# Altium integrated library TI Amplifiers and Linear Operational Amplifier High Speed.IntLib: 1100 symbols (part 15 of 44)
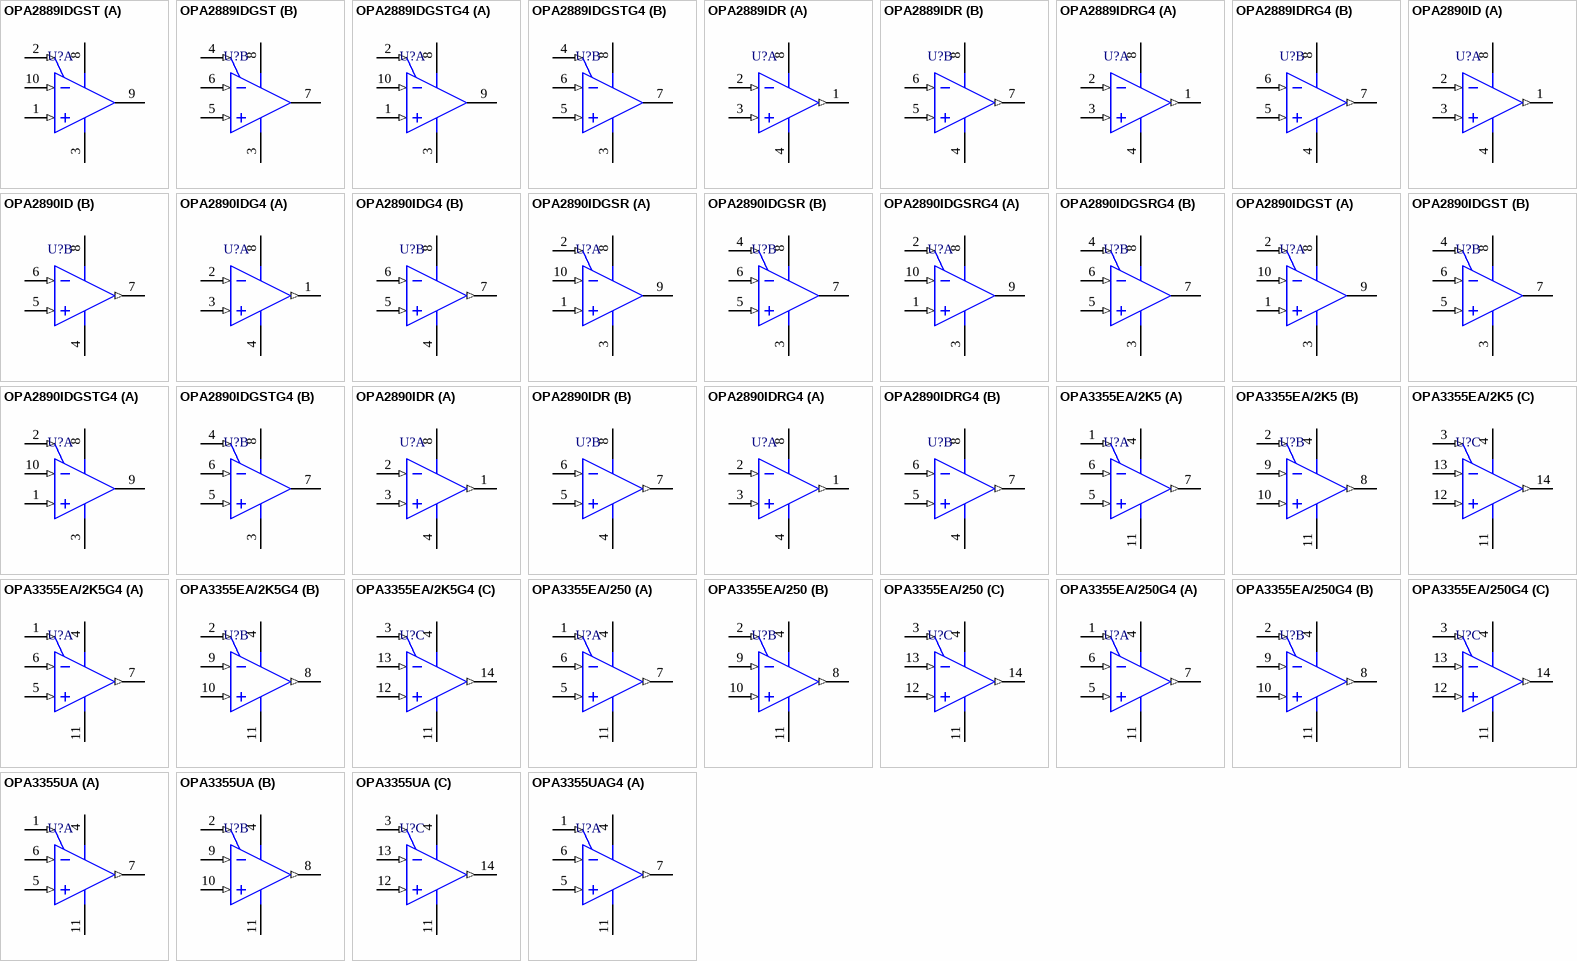
[diagram p65: symbols OPA2889IDGST to OPA3355UAG4]

## OPA2889IDGSTG4
designator U?
Dual, Low Power, Wideband, Voltage Feedback Operational Amplifier with Disable, 2.6 to 12 V, -40 to 85 degC, 10-pin SOP (DGS10), Green (RoHS & no Sb/Br); Manufacturer: Texas Instruments; PartNumber: OPA2889IDGSTG4; 2nd Harmonic(dBc): 75; 3rd Harmonic(dBc): 80; @ MHz: 1; BW @ Acl(MHz): 115; Diff Gain(%): 0.06; Diff Phase(deg): 0.04; Iib(Max)(nA): 750; Io(Typ)(mA): 40; Iq per channel(Max)(mA): 0.46; Number of Channels: 2; Settling Time (0.1%)(Typ)(ns): 25; Slew Rate(Typ)(V/us): 250; Sub Family: High Speed Amplifier (>=50MHz), Low Supply Voltage Amplifier (<=2.7V); THD (Fc is 1 MHz)(Typ)(dB): -74; Vio(Max)(mV): 5; Vn at Flatband(Typ)(nV/rtHz): 8.4; Vs(Max)(V): 12; Vs(Min)(V): 2.6; DatasheetVersion: SBOS373B; PackageVersion: 4073272/C, 02/2004; PackageReference: DGS10; PackageDescription: 10-Pin Plastic Small Outline, Body 3 x 3 mm, Pitch 0.5 mm; Supplier 1: Digi-Key; Supplier Part Number 1: OPA2889IDGSTG4-ND; Supplier 2: Mouser; Supplier Part Number 2: 595-OPA2889IDGSTG4; Acl, min stable gain(V/V): 1; Eco-Plan: Green (RoHS & no Sb/Br); Mounting Technology: Surface Mount; Code_JEDEC: MO-153; ComponentLink1Description: Manufacturer URL; ComponentLink1URL: http://www.ti.com/; ComponentLink2Description: Datasheet; ComponentLink2URL: http://www.ti.com/general/docs/lit/getliterature.tsp?genericPartNumber=OPA2889&fileType=pdf; ComponentLink3Description: Package Specification; ComponentLink3URL: http://www.ti.com/lit/ml/mpds035b/mpds035b.pdf
footprint TI-DGS10_N (SOP, 10-Leads, Body 3x3mm, Pitch 0.5mm, IPC Medium Density)
footprint TI-DGS10_L (SOP, 10-Leads, Body 3x3mm, Pitch 0.5mm, IPC High Density)
footprint TI-DGS10_M (SOP, 10-Leads, Body 3x3mm, Pitch 0.5mm, IPC Low Density)
pins on every part: 3 VS- (power), 8 VS+ (power)
part A pins: 1 IN A+ (in), 2 ~{DIS A} (in), 9 OUT A (hiz), 10 IN A- (in)
part B pins: 4 ~{DIS B} (in), 5 IN B+ (in), 6 IN B- (in), 7 OUT B (hiz)

## OPA2889IDR
designator U?
Dual, Low Power, Wideband, Voltage Feedback Operational Amplifier with Disable, 2.6 to 12 V, -40 to 85 degC, 8-pin SOIC (D8), Green (RoHS & no Sb/Br); Manufacturer: Texas Instruments; PartNumber: OPA2889IDR; 2nd Harmonic(dBc): 75; 3rd Harmonic(dBc): 80; @ MHz: 1; BW @ Acl(MHz): 115; Diff Gain(%): 0.06; Diff Phase(deg): 0.04; Iib(Max)(nA): 750; Io(Typ)(mA): 40; Iq per channel(Max)(mA): 0.46; Number of Channels: 2; Settling Time (0.1%)(Typ)(ns): 25; Slew Rate(Typ)(V/us): 250; Sub Family: High Speed Amplifier (>=50MHz), Low Supply Voltage Amplifier (<=2.7V); THD (Fc is 1 MHz)(Typ)(dB): -74; Vio(Max)(mV): 5; Vn at Flatband(Typ)(nV/rtHz): 8.4; Vs(Max)(V): 12; Vs(Min)(V): 2.6; DatasheetVersion: SBOS373B; PackageVersion: 4040047-3/M, 06/2011; PackageReference: D8; PackageDescription: 8-Pin Plastic Small Outline, Body 4.9 x 3.9 mm, Pitch 1.27 mm; Supplier 1: Digi-Key; Supplier Part Number 1: OPA2889IDR-ND; Supplier 2: Newark; Supplier Part Number 2: 50M8879; Supplier 3: Mouser; Supplier Part Number 3: 595-OPA2889IDR; Acl, min stable gain(V/V): 1; Eco-Plan: Green (RoHS & no Sb/Br); Mounting Technology: Surface Mount; Code_JEDEC: MS-012; ComponentLink1Description: Manufacturer URL; ComponentLink1URL: http://www.ti.com/; ComponentLink2Description: Datasheet; ComponentLink2URL: http://www.ti.com/general/docs/lit/getliterature.tsp?genericPartNumber=OPA2889&fileType=pdf; ComponentLink3Description: Package Specification; ComponentLink3URL: http://www.ti.com/litv/pdf/msoi002j
footprint TI-D8_N (SOIC, 8-Leads, Body 4.9x3.9mm, Pitch 1.27mm, IPC Medium Density)
footprint TI-D8_L (SOIC, 8-Leads, Body 4.9x3.9mm, Pitch 1.27mm, IPC High Density)
footprint TI-D8_M (SOIC, 8-Leads, Body 4.9x3.9mm, Pitch 1.27mm, IPC Low Density)
pins on every part: 4 VS- (power), 8 VS+ (power)
part A pins: 1 OUT A (out), 2 IN A- (in), 3 IN A+ (in)
part B pins: 5 IN B+ (in), 6 IN B- (in), 7 OUT B (out)

## OPA2889IDRG4
designator U?
Dual, Low Power, Wideband, Voltage Feedback Operational Amplifier with Disable, 2.6 to 12 V, -40 to 85 degC, 8-pin SOIC (D8), Green (RoHS & no Sb/Br); Manufacturer: Texas Instruments; PartNumber: OPA2889IDRG4; 2nd Harmonic(dBc): 75; 3rd Harmonic(dBc): 80; @ MHz: 1; BW @ Acl(MHz): 115; Diff Gain(%): 0.06; Diff Phase(deg): 0.04; Iib(Max)(nA): 880; Io(Typ)(mA): 40; Iq per channel(Max)(mA): 0.46; Number of Channels: 2; Settling Time (0.1%)(Typ)(ns): 25; Slew Rate(Typ)(V/us): 250; Sub Family: High Speed Amplifier (>=50MHz), Low Supply Voltage Amplifier (<=2.7V); THD (Fc is 1 MHz)(Typ)(dB): -74; Vio(Max)(mV): 5; Vn at Flatband(Typ)(nV/rtHz): 8.4; Vs(Max)(V): 12; Vs(Min)(V): 2.6; DatasheetVersion: SBOS373B; PackageVersion: 4040047-3/M, 06/2011; PackageReference: D8; PackageDescription: 8-Pin Plastic Small Outline, Body 4.9 x 3.9 mm, Pitch 1.27 mm; Supplier 1: Digi-Key; Supplier Part Number 1: OPA2889IDRG4-ND; Supplier 2: Newark; Supplier Part Number 2: 52M5919; Supplier 3: Mouser; Supplier Part Number 3: 595-OPA2889IDRG4; Eco-Plan: Green (RoHS & no Sb/Br); Mounting Technology: Surface Mount; Code_JEDEC: MS-012; ComponentLink1Description: Manufacturer URL; ComponentLink1URL: http://www.ti.com/; ComponentLink2Description: Datasheet; ComponentLink2URL: http://www.ti.com/general/docs/lit/getliterature.tsp?genericPartNumber=OPA2889&fileType=pdf; ComponentLink3Description: Package Specification; ComponentLink3URL: http://www.ti.com/litv/pdf/msoi002j
footprint TI-D8_N (SOIC, 8-Leads, Body 4.9x3.9mm, Pitch 1.27mm, IPC Medium Density)
footprint TI-D8_L (SOIC, 8-Leads, Body 4.9x3.9mm, Pitch 1.27mm, IPC High Density)
footprint TI-D8_M (SOIC, 8-Leads, Body 4.9x3.9mm, Pitch 1.27mm, IPC Low Density)
pins on every part: 4 VS- (power), 8 VS+ (power)
part A pins: 1 OUT A (out), 2 IN A- (in), 3 IN A+ (in)
part B pins: 5 IN B+ (in), 6 IN B- (in), 7 OUT B (out)

## OPA2890ID
designator U?
Dual, Low Power, Wideband, Voltage Feedback Operational Amplifier with Disable, 3 to 12 V, -40 to 85 degC, 8-pin SOIC (D8), Green (RoHS & no Sb/Br); Manufacturer: Texas Instruments; PartNumber: OPA2890ID; 2nd Harmonic(dBc): 84; 3rd Harmonic(dBc): 89; @ MHz: 1; BW @ Acl(MHz): 250; Iib(Max)(nA): 1600; Io(Typ)(mA): 40; Iq per channel(Max)(mA): 1.2; Number of Channels: 2; Settling Time (0.1%)(Typ)(ns): 16; Slew Rate(Typ)(V/us): 400; Sub Family: High Speed Amplifier (>=50MHz); Vio(Max)(mV): 5; Vn at Flatband(Typ)(nV/rtHz): 8; Vs(Max)(V): 12; Vs(Min)(V): 3; DatasheetVersion: SBOS364C; PackageVersion: 4040047-3/M, 06/2011; PackageReference: D8; PackageDescription: 8-Pin Plastic Small Outline, Body 4.9 x 3.9 mm, Pitch 1.27 mm; Supplier 1: Digi-Key; Supplier Part Number 1: 296-22969-5-ND; Supplier 2: Farnell; Supplier Part Number 2: 1603398; Supplier 3: Newark; Supplier Part Number 3: 12N2333; Supplier 4: Newark; Supplier Part Number 4: 72M4285; Supplier 5: Mouser; Supplier Part Number 5: 595-OPA2890ID; Acl, min stable gain(V/V): 1; Eco-Plan: Green (RoHS & no Sb/Br); Mounting Technology: Surface Mount; Code_JEDEC: MS-012; ComponentLink1Description: Manufacturer URL; ComponentLink1URL: http://www.ti.com/; ComponentLink2Description: Datasheet; ComponentLink2URL: http://www.ti.com/general/docs/lit/getliterature.tsp?genericPartNumber=OPA2890&fileType=pdf; ComponentLink3Description: Package Specification; ComponentLink3URL: http://www.ti.com/litv/pdf/msoi002j
footprint TI-D8_N (SOIC, 8-Leads, Body 4.9x3.9mm, Pitch 1.27mm, IPC Medium Density)
footprint TI-D8_L (SOIC, 8-Leads, Body 4.9x3.9mm, Pitch 1.27mm, IPC High Density)
footprint TI-D8_M (SOIC, 8-Leads, Body 4.9x3.9mm, Pitch 1.27mm, IPC Low Density)
pins on every part: 4 VS- (power), 8 VS+ (power)
part A pins: 1 OUT A (out), 2 IN A- (in), 3 IN A+ (in)
part B pins: 5 IN B+ (in), 6 IN B- (in), 7 OUT B (out)

## OPA2890IDG4
designator U?
Dual, Low Power, Wideband, Voltage Feedback Operational Amplifier with Disable, 3 to 12 V, -40 to 85 degC, 8-pin SOIC (D8), Green (RoHS & no Sb/Br); Manufacturer: Texas Instruments; PartNumber: OPA2890IDG4; 2nd Harmonic(dBc): 84; 3rd Harmonic(dBc): 89; @ MHz: 1; BW @ Acl(MHz): 250; Iib(Max)(nA): 1600; Io(Typ)(mA): 40; Iq per channel(Max)(mA): 1.2; Number of Channels: 2; Settling Time (0.1%)(Typ)(ns): 16; Slew Rate(Typ)(V/us): 400; Sub Family: High Speed Amplifier (>=50MHz); Vio(Max)(mV): 5; Vn at Flatband(Typ)(nV/rtHz): 8; Vs(Max)(V): 12; Vs(Min)(V): 3; DatasheetVersion: SBOS364C; PackageVersion: 4040047-3/M, 06/2011; PackageReference: D8; PackageDescription: 8-Pin Plastic Small Outline, Body 4.9 x 3.9 mm, Pitch 1.27 mm; Supplier 1: Digi-Key; Supplier Part Number 1: OPA2890IDG4-ND; Supplier 2: Mouser; Supplier Part Number 2: 595-OPA2890IDG4; Acl, min stable gain(V/V): 1; Eco-Plan: Green (RoHS & no Sb/Br); Mounting Technology: Surface Mount; Code_JEDEC: MS-012; ComponentLink1Description: Manufacturer URL; ComponentLink1URL: http://www.ti.com/; ComponentLink2Description: Datasheet; ComponentLink2URL: http://www.ti.com/general/docs/lit/getliterature.tsp?genericPartNumber=OPA2890&fileType=pdf; ComponentLink3Description: Package Specification; ComponentLink3URL: http://www.ti.com/litv/pdf/msoi002j
footprint TI-D8_N (SOIC, 8-Leads, Body 4.9x3.9mm, Pitch 1.27mm, IPC Medium Density)
footprint TI-D8_L (SOIC, 8-Leads, Body 4.9x3.9mm, Pitch 1.27mm, IPC High Density)
footprint TI-D8_M (SOIC, 8-Leads, Body 4.9x3.9mm, Pitch 1.27mm, IPC Low Density)
pins on every part: 4 VS- (power), 8 VS+ (power)
part A pins: 1 OUT A (out), 2 IN A- (in), 3 IN A+ (in)
part B pins: 5 IN B+ (in), 6 IN B- (in), 7 OUT B (out)

## OPA2890IDGSR
designator U?
Dual, Low Power, Wideband, Voltage Feedback Operational Amplifier with Disable, 3 to 12 V, -40 to 85 degC, 10-pin SOP (DGS10), Green (RoHS & no Sb/Br); Manufacturer: Texas Instruments; PartNumber: OPA2890IDGSR; 2nd Harmonic(dBc): 84; 3rd Harmonic(dBc): 89; @ MHz: 1; BW @ Acl(MHz): 250; Iib(Max)(nA): 1600; Io(Typ)(mA): 40; Iq per channel(Max)(mA): 1.2; Number of Channels: 2; Settling Time (0.1%)(Typ)(ns): 16; Slew Rate(Typ)(V/us): 400; Sub Family: High Speed Amplifier (>=50MHz); Vio(Max)(mV): 5; Vn at Flatband(Typ)(nV/rtHz): 8; Vs(Max)(V): 12; Vs(Min)(V): 3; DatasheetVersion: SBOS364C; PackageVersion: 4073272/C, 02/2004; PackageReference: DGS10; PackageDescription: 10-Pin Plastic Small Outline, Body 3 x 3 mm, Pitch 0.5 mm; Supplier 1: Digi-Key; Supplier Part Number 1: OPA2890IDGSR-ND; Supplier 2: Mouser; Supplier Part Number 2: 595-OPA2890IDGSR; Acl, min stable gain(V/V): 1; Eco-Plan: Green (RoHS & no Sb/Br); Mounting Technology: Surface Mount; Code_JEDEC: MO-153; ComponentLink1Description: Manufacturer URL; ComponentLink1URL: http://www.ti.com/; ComponentLink2Description: Datasheet; ComponentLink2URL: http://www.ti.com/general/docs/lit/getliterature.tsp?genericPartNumber=OPA2890&fileType=pdf; ComponentLink3Description: Package Specification; ComponentLink3URL: http://www.ti.com/lit/ml/mpds035b/mpds035b.pdf
footprint TI-DGS10_N (SOP, 10-Leads, Body 3x3mm, Pitch 0.5mm, IPC Medium Density)
footprint TI-DGS10_L (SOP, 10-Leads, Body 3x3mm, Pitch 0.5mm, IPC High Density)
footprint TI-DGS10_M (SOP, 10-Leads, Body 3x3mm, Pitch 0.5mm, IPC Low Density)
pins on every part: 3 VS- (power), 8 VS+ (power)
part A pins: 1 IN A+ (in), 2 ~{DIS A} (in), 9 OUT A (hiz), 10 IN A- (in)
part B pins: 4 ~{DIS B} (in), 5 IN B+ (in), 6 IN B- (in), 7 OUT B (hiz)

## OPA2890IDGSRG4
designator U?
Dual, Low Power, Wideband, Voltage Feedback Operational Amplifier with Disable, 3 to 12 V, -40 to 85 degC, 10-pin SOP (DGS10), Green (RoHS & no Sb/Br); Manufacturer: Texas Instruments; PartNumber: OPA2890IDGSRG4; 2nd Harmonic(dBc): 84; 3rd Harmonic(dBc): 89; @ MHz: 1; BW @ Acl(MHz): 250; Iib(Max)(nA): 1600; Io(Typ)(mA): 40; Iq per channel(Max)(mA): 1.2; Number of Channels: 2; Settling Time (0.1%)(Typ)(ns): 16; Slew Rate(Typ)(V/us): 400; Sub Family: High Speed Amplifier (>=50MHz); Vio(Max)(mV): 5; Vn at Flatband(Typ)(nV/rtHz): 8; Vs(Max)(V): 12; Vs(Min)(V): 3; DatasheetVersion: SBOS364C; PackageVersion: 4073272/C, 02/2004; PackageReference: DGS10; PackageDescription: 10-Pin Plastic Small Outline, Body 3 x 3 mm, Pitch 0.5 mm; Supplier 1: Digi-Key; Supplier Part Number 1: OPA2890IDGSRG4-ND; Supplier 2: Mouser; Supplier Part Number 2: 595-OPA2890IDGSRG4; Acl, min stable gain(V/V): 1; Eco-Plan: Green (RoHS & no Sb/Br); Mounting Technology: Surface Mount; Code_JEDEC: MO-153; ComponentLink1Description: Manufacturer URL; ComponentLink1URL: http://www.ti.com/; ComponentLink2Description: Datasheet; ComponentLink2URL: http://www.ti.com/general/docs/lit/getliterature.tsp?genericPartNumber=OPA2890&fileType=pdf; ComponentLink3Description: Package Specification; ComponentLink3URL: http://www.ti.com/lit/ml/mpds035b/mpds035b.pdf
footprint TI-DGS10_N (SOP, 10-Leads, Body 3x3mm, Pitch 0.5mm, IPC Medium Density)
footprint TI-DGS10_L (SOP, 10-Leads, Body 3x3mm, Pitch 0.5mm, IPC High Density)
footprint TI-DGS10_M (SOP, 10-Leads, Body 3x3mm, Pitch 0.5mm, IPC Low Density)
pins on every part: 3 VS- (power), 8 VS+ (power)
part A pins: 1 IN A+ (in), 2 ~{DIS A} (in), 9 OUT A (hiz), 10 IN A- (in)
part B pins: 4 ~{DIS B} (in), 5 IN B+ (in), 6 IN B- (in), 7 OUT B (hiz)

## OPA2890IDGST
designator U?
Dual, Low Power, Wideband, Voltage Feedback Operational Amplifier with Disable, 3 to 12 V, -40 to 85 degC, 10-pin SOP (DGS10), Green (RoHS & no Sb/Br); Manufacturer: Texas Instruments; PartNumber: OPA2890IDGST; 2nd Harmonic(dBc): 84; 3rd Harmonic(dBc): 89; @ MHz: 1; BW @ Acl(MHz): 250; Iib(Max)(nA): 1600; Io(Typ)(mA): 40; Iq per channel(Max)(mA): 1.2; Number of Channels: 2; Settling Time (0.1%)(Typ)(ns): 16; Slew Rate(Typ)(V/us): 400; Sub Family: High Speed Amplifier (>=50MHz); Vio(Max)(mV): 5; Vn at Flatband(Typ)(nV/rtHz): 8; Vs(Max)(V): 12; Vs(Min)(V): 3; DatasheetVersion: SBOS364C; PackageVersion: 4073272/C, 02/2004; PackageReference: DGS10; PackageDescription: 10-Pin Plastic Small Outline, Body 3 x 3 mm, Pitch 0.5 mm; Supplier 1: Digi-Key; Supplier Part Number 1: 296-22970-2-ND; Supplier 2: Digi-Key; Supplier Part Number 2: 296-22970-1-ND; Supplier 3: Digi-Key; Supplier Part Number 3: 296-22970-6-ND; Supplier 4: Newark; Supplier Part Number 4: 72M4287; Supplier 5: Mouser; Supplier Part Number 5: 595-OPA2890IDGST; Acl, min stable gain(V/V): 1; Eco-Plan: Green (RoHS & no Sb/Br); Mounting Technology: Surface Mount; Code_JEDEC: MO-153; ComponentLink1Description: Manufacturer URL; ComponentLink1URL: http://www.ti.com/; ComponentLink2Description: Datasheet; ComponentLink2URL: http://www.ti.com/general/docs/lit/getliterature.tsp?genericPartNumber=OPA2890&fileType=pdf; ComponentLink3Description: Package Specification; ComponentLink3URL: http://www.ti.com/lit/ml/mpds035b/mpds035b.pdf
footprint TI-DGS10_N (SOP, 10-Leads, Body 3x3mm, Pitch 0.5mm, IPC Medium Density)
footprint TI-DGS10_L (SOP, 10-Leads, Body 3x3mm, Pitch 0.5mm, IPC High Density)
footprint TI-DGS10_M (SOP, 10-Leads, Body 3x3mm, Pitch 0.5mm, IPC Low Density)
pins on every part: 3 VS- (power), 8 VS+ (power)
part A pins: 1 IN A+ (in), 2 ~{DIS A} (in), 9 OUT A (hiz), 10 IN A- (in)
part B pins: 4 ~{DIS B} (in), 5 IN B+ (in), 6 IN B- (in), 7 OUT B (hiz)

## OPA2890IDGSTG4
designator U?
Dual, Low Power, Wideband, Voltage Feedback Operational Amplifier with Disable, 3 to 12 V, -40 to 85 degC, 10-pin SOP (DGS10), Green (RoHS & no Sb/Br); Manufacturer: Texas Instruments; PartNumber: OPA2890IDGSTG4; 2nd Harmonic(dBc): 84; 3rd Harmonic(dBc): 89; @ MHz: 1; BW @ Acl(MHz): 250; Iib(Max)(nA): 1600; Io(Typ)(mA): 40; Iq per channel(Max)(mA): 1.2; Number of Channels: 2; Settling Time (0.1%)(Typ)(ns): 16; Slew Rate(Typ)(V/us): 400; Sub Family: High Speed Amplifier (>=50MHz); Vio(Max)(mV): 5; Vn at Flatband(Typ)(nV/rtHz): 8; Vs(Max)(V): 12; Vs(Min)(V): 3; DatasheetVersion: SBOS364C; PackageVersion: 4073272/C, 02/2004; PackageReference: DGS10; PackageDescription: 10-Pin Plastic Small Outline, Body 3 x 3 mm, Pitch 0.5 mm; Supplier 1: Digi-Key; Supplier Part Number 1: OPA2890IDGSTG4-ND; Supplier 2: Mouser; Supplier Part Number 2: 595-OPA2890IDGSTG4; Acl, min stable gain(V/V): 1; Eco-Plan: Green (RoHS & no Sb/Br); Mounting Technology: Surface Mount; Code_JEDEC: MO-153; ComponentLink1Description: Manufacturer URL; ComponentLink1URL: http://www.ti.com/; ComponentLink2Description: Datasheet; ComponentLink2URL: http://www.ti.com/general/docs/lit/getliterature.tsp?genericPartNumber=OPA2890&fileType=pdf; ComponentLink3Description: Package Specification; ComponentLink3URL: http://www.ti.com/lit/ml/mpds035b/mpds035b.pdf
footprint TI-DGS10_N (SOP, 10-Leads, Body 3x3mm, Pitch 0.5mm, IPC Medium Density)
footprint TI-DGS10_L (SOP, 10-Leads, Body 3x3mm, Pitch 0.5mm, IPC High Density)
footprint TI-DGS10_M (SOP, 10-Leads, Body 3x3mm, Pitch 0.5mm, IPC Low Density)
pins on every part: 3 VS- (power), 8 VS+ (power)
part A pins: 1 IN A+ (in), 2 ~{DIS A} (in), 9 OUT A (hiz), 10 IN A- (in)
part B pins: 4 ~{DIS B} (in), 5 IN B+ (in), 6 IN B- (in), 7 OUT B (hiz)

## OPA2890IDR
designator U?
Dual, Low Power, Wideband, Voltage Feedback Operational Amplifier with Disable, 3 to 12 V, -40 to 85 degC, 8-pin SOIC (D8), Green (RoHS & no Sb/Br); Manufacturer: Texas Instruments; PartNumber: OPA2890IDR; 2nd Harmonic(dBc): 84; 3rd Harmonic(dBc): 89; @ MHz: 1; BW @ Acl(MHz): 250; Iib(Max)(nA): 1600; Io(Typ)(mA): 40; Iq per channel(Max)(mA): 1.2; Number of Channels: 2; Settling Time (0.1%)(Typ)(ns): 16; Slew Rate(Typ)(V/us): 400; Sub Family: High Speed Amplifier (>=50MHz); Vio(Max)(mV): 5; Vn at Flatband(Typ)(nV/rtHz): 8; Vs(Max)(V): 12; Vs(Min)(V): 3; DatasheetVersion: SBOS364C; PackageVersion: 4040047-3/M, 06/2011; PackageReference: D8; PackageDescription: 8-Pin Plastic Small Outline, Body 4.9 x 3.9 mm, Pitch 1.27 mm; Supplier 1: Digi-Key; Supplier Part Number 1: OPA2890IDR-ND; Supplier 2: Mouser; Supplier Part Number 2: 595-OPA2890IDR; Acl, min stable gain(V/V): 1; Eco-Plan: Green (RoHS & no Sb/Br); Mounting Technology: Surface Mount; Code_JEDEC: MS-012; ComponentLink1Description: Manufacturer URL; ComponentLink1URL: http://www.ti.com/; ComponentLink2Description: Datasheet; ComponentLink2URL: http://www.ti.com/general/docs/lit/getliterature.tsp?genericPartNumber=OPA2890&fileType=pdf; ComponentLink3Description: Package Specification; ComponentLink3URL: http://www.ti.com/litv/pdf/msoi002j
footprint TI-D8_N (SOIC, 8-Leads, Body 4.9x3.9mm, Pitch 1.27mm, IPC Medium Density)
footprint TI-D8_L (SOIC, 8-Leads, Body 4.9x3.9mm, Pitch 1.27mm, IPC High Density)
footprint TI-D8_M (SOIC, 8-Leads, Body 4.9x3.9mm, Pitch 1.27mm, IPC Low Density)
pins on every part: 4 VS- (power), 8 VS+ (power)
part A pins: 1 OUT A (out), 2 IN A- (in), 3 IN A+ (in)
part B pins: 5 IN B+ (in), 6 IN B- (in), 7 OUT B (out)

## OPA2890IDRG4
designator U?
Dual, Low Power, Wideband, Voltage Feedback Operational Amplifier with Disable, 3 to 12 V, -40 to 85 degC, 8-pin SOIC (D8), Green (RoHS & no Sb/Br); Manufacturer: Texas Instruments; PartNumber: OPA2890IDRG4; 2nd Harmonic(dBc): 84; 3rd Harmonic(dBc): 89; Acl, min stable gain(V/V): 1; BW @ Acl(MHz): 250; Diff Gain(%): 0.05; Diff Phase(deg): 0.03; Iib(Max)(nA): 2000; Io(Typ)(mA): 40; Iq per channel(Max)(mA): 1.2; Number of Channels: 2; Settling Time (0.1%)(Typ)(ns): 10; Slew Rate(Typ)(V/us): 400; Sub Family: High Speed Amplifier (>=50MHz); Vio(Max)(mV): 5; Vn at Flatband(Typ)(nV/rtHz): 8; Vs(Max)(V): 12; Vs(Min)(V): 3; DatasheetVersion: SBOS364C; PackageVersion: 4040047-3/M, 06/2011; PackageReference: D8; PackageDescription: 8-Pin Plastic Small Outline, Body 4.9 x 3.9 mm, Pitch 1.27 mm; Supplier 1: Digi-Key; Supplier Part Number 1: OPA2890IDRG4-ND; Supplier 2: Mouser; Supplier Part Number 2: 595-OPA2890IDRG4; Eco-Plan: Green (RoHS & no Sb/Br); Mounting Technology: Surface Mount; Code_JEDEC: MS-012; ComponentLink1Description: Manufacturer URL; ComponentLink1URL: http://www.ti.com/; ComponentLink2Description: Datasheet; ComponentLink2URL: http://www.ti.com/general/docs/lit/getliterature.tsp?genericPartNumber=OPA2890&fileType=pdf; ComponentLink3Description: Package Specification; ComponentLink3URL: http://www.ti.com/litv/pdf/msoi002j
footprint TI-D8_N (SOIC, 8-Leads, Body 4.9x3.9mm, Pitch 1.27mm, IPC Medium Density)
footprint TI-D8_L (SOIC, 8-Leads, Body 4.9x3.9mm, Pitch 1.27mm, IPC High Density)
footprint TI-D8_M (SOIC, 8-Leads, Body 4.9x3.9mm, Pitch 1.27mm, IPC Low Density)
pins on every part: 4 VS- (power), 8 VS+ (power)
part A pins: 1 OUT A (out), 2 IN A- (in), 3 IN A+ (in)
part B pins: 5 IN B+ (in), 6 IN B- (in), 7 OUT B (out)

## OPA3355EA/2K5
designator U?
200 MHz GBW, CMOS Triple Operational Amplifier with Shutdown, 2.7 to 5.5 V, -40 to 125 degC, 14-pin SOP (PW14), Green (RoHS & no Sb/Br); Manufacturer: Texas Instruments; PartNumber: OPA3355EA/2K5; 2nd Harmonic(dBc): 81; 3rd Harmonic(dBc): 93; @ MHz: 1; BW @ Acl(MHz): 450; Diff Gain(%): 0.02; Diff Phase(deg): 0.05; Io(Typ)(mA): 100; Iq per channel(Max)(mA): 14; Number of Channels: 3; Settling Time (0.1%)(Typ)(ns): 30; Slew Rate(Typ)(V/us): 360; Sub Family: High Output Current Amplifier (>=50mA), High Speed Amplifier (>=50MHz), Low Supply Voltage Amplifier (<=2.7V); THD (Fc is 1 MHz)(Typ)(dB): -79; Vio(Max)(mV): 2; Vn at Flatband(Typ)(nV/rtHz): 5.8; Vs(Max)(V): 5.5; Vs(Min)(V): 2.7; DatasheetVersion: SBOS195D; PackageVersion: 4040064-3/G, 02/2011; PackageReference: PW14; PackageDescription: 14-Pin Plastic Small Outline, Body 5 x 4.4 mm, Pitch 0.65 mm; Supplier 1: Digi-Key; Supplier Part Number 1: 296-29279-2-ND; Supplier 2: Digi-Key; Supplier Part Number 2: 296-29279-1-ND; Supplier 3: Digi-Key; Supplier Part Number 3: 296-29279-6-ND; Supplier 4: Mouser; Supplier Part Number 4: 595-OPA3355EA/2K5; Acl, min stable gain(V/V): 1; Eco-Plan: Green (RoHS & no Sb/Br); Iib(Max)(nA): 0.05; Mounting Technology: Surface Mount; Code_JEDEC: MO-153; ComponentLink1Description: Manufacturer URL; ComponentLink1URL: http://www.ti.com/; ComponentLink2Description: Datasheet; ComponentLink2URL: http://www.ti.com/general/docs/lit/getliterature.tsp?genericPartNumber=OPA3355&fileType=pdf; ComponentLink3Description: Package Specification; ComponentLink3URL: http://www.ti.com/litv/pdf/mpds360
footprint TI-PW14_N (SOP, 14-Leads, Body 5x4.4mm, Pitch 0.65mm, IPC Medium Density)
footprint TI-PW14_L (SOP, 14-Leads, Body 5x4.4mm, Pitch 0.65mm, IPC High Density)
footprint TI-PW14_M (SOP, 14-Leads, Body 5x4.4mm, Pitch 0.65mm, IPC Low Density)
pins on every part: 4 V+ (power), 11 V- (power)
part A pins: 1 ENABLE A (in), 5 IN A+ (in), 6 IN A- (in), 7 OUT A (out)
part B pins: 2 ENABLE B (in), 8 OUT B (out), 9 IN B- (in), 10 IN B+ (in)
part C pins: 3 ENABLE C (in), 12 IN C+ (in), 13 IN C- (in), 14 OUT C (out)

## OPA3355EA/2K5G4
designator U?
200 MHz GBW, CMOS Triple Operational Amplifier with Shutdown, 2.7 to 5.5 V, -40 to 125 degC, 14-pin SOP (PW14), Green (RoHS & no Sb/Br); Manufacturer: Texas Instruments; PartNumber: OPA3355EA/2K5G4; 2nd Harmonic(dBc): 81; 3rd Harmonic(dBc): 93; @ MHz: 1; BW @ Acl(MHz): 450; Diff Gain(%): 0.02; Diff Phase(deg): 0.05; Io(Typ)(mA): 100; Iq per channel(Max)(mA): 14; Number of Channels: 3; Settling Time (0.1%)(Typ)(ns): 30; Slew Rate(Typ)(V/us): 360; Sub Family: High Output Current Amplifier (>=50mA), High Speed Amplifier (>=50MHz), Low Supply Voltage Amplifier (<=2.7V); THD (Fc is 1 MHz)(Typ)(dB): -79; Vio(Max)(mV): 2; Vn at Flatband(Typ)(nV/rtHz): 5.8; Vs(Max)(V): 5.5; Vs(Min)(V): 2.7; DatasheetVersion: SBOS195D; PackageVersion: 4040064-3/G, 02/2011; PackageReference: PW14; PackageDescription: 14-Pin Plastic Small Outline, Body 5 x 4.4 mm, Pitch 0.65 mm; Supplier 1: Digi-Key; Supplier Part Number 1: OPA3355EA/2K5G4-ND; Supplier 2: Newark; Supplier Part Number 2: 54K0156; Supplier 3: Mouser; Supplier Part Number 3: 595-OPA3355EA/2K5G4; Acl, min stable gain(V/V): 1; Eco-Plan: Green (RoHS & no Sb/Br); Iib(Max)(nA): 0.05; Mounting Technology: Surface Mount; Code_JEDEC: MO-153; ComponentLink1Description: Manufacturer URL; ComponentLink1URL: http://www.ti.com/; ComponentLink2Description: Datasheet; ComponentLink2URL: http://www.ti.com/general/docs/lit/getliterature.tsp?genericPartNumber=OPA3355&fileType=pdf; ComponentLink3Description: Package Specification; ComponentLink3URL: http://www.ti.com/litv/pdf/mpds360
footprint TI-PW14_N (SOP, 14-Leads, Body 5x4.4mm, Pitch 0.65mm, IPC Medium Density)
footprint TI-PW14_L (SOP, 14-Leads, Body 5x4.4mm, Pitch 0.65mm, IPC High Density)
footprint TI-PW14_M (SOP, 14-Leads, Body 5x4.4mm, Pitch 0.65mm, IPC Low Density)
pins on every part: 4 V+ (power), 11 V- (power)
part A pins: 1 ENABLE A (in), 5 IN A+ (in), 6 IN A- (in), 7 OUT A (out)
part B pins: 2 ENABLE B (in), 8 OUT B (out), 9 IN B- (in), 10 IN B+ (in)
part C pins: 3 ENABLE C (in), 12 IN C+ (in), 13 IN C- (in), 14 OUT C (out)

## OPA3355EA/250
designator U?
200 MHz GBW, CMOS Triple Operational Amplifier with Shutdown, 2.7 to 5.5 V, -40 to 125 degC, 14-pin SOP (PW14), Green (RoHS & no Sb/Br); Manufacturer: Texas Instruments; PartNumber: OPA3355EA/250; 2nd Harmonic(dBc): 81; 3rd Harmonic(dBc): 93; @ MHz: 1; BW @ Acl(MHz): 450; Diff Gain(%): 0.02; Diff Phase(deg): 0.05; Io(Typ)(mA): 100; Iq per channel(Max)(mA): 14; Number of Channels: 3; Settling Time (0.1%)(Typ)(ns): 30; Slew Rate(Typ)(V/us): 360; Sub Family: High Output Current Amplifier (>=50mA), High Speed Amplifier (>=50MHz), Low Supply Voltage Amplifier (<=2.7V); THD (Fc is 1 MHz)(Typ)(dB): -79; Vio(Max)(mV): 2; Vn at Flatband(Typ)(nV/rtHz): 5.8; Vs(Max)(V): 5.5; Vs(Min)(V): 2.7; DatasheetVersion: SBOS195D; PackageVersion: 4040064-3/G, 02/2011; PackageReference: PW14; PackageDescription: 14-Pin Plastic Small Outline, Body 5 x 4.4 mm, Pitch 0.65 mm; Supplier 1: Digi-Key; Supplier Part Number 1: OPA3355EA/250TR-ND; Supplier 2: Digi-Key; Supplier Part Number 2: OPA3355EA/250CT-ND; Supplier 3: Digi-Key; Supplier Part Number 3: OPA3355EA/250DKR-ND; Supplier 4: Farnell; Supplier Part Number 4: 1624413; Supplier 5: Newark; Supplier Part Number 5: 01P3936; Supplier 6: Mouser; Supplier Part Number 6: 595-OPA3355EA/250; Acl, min stable gain(V/V): 1; Eco-Plan: Green (RoHS & no Sb/Br); Iib(Max)(nA): 0.05; Mounting Technology: Surface Mount; Code_JEDEC: MO-153; ComponentLink1Description: Manufacturer URL; ComponentLink1URL: http://www.ti.com/; ComponentLink2Description: Datasheet; ComponentLink2URL: http://www.ti.com/general/docs/lit/getliterature.tsp?genericPartNumber=OPA3355&fileType=pdf; ComponentLink3Description: Package Specification; ComponentLink3URL: http://www.ti.com/litv/pdf/mpds360
footprint TI-PW14_N (SOP, 14-Leads, Body 5x4.4mm, Pitch 0.65mm, IPC Medium Density)
footprint TI-PW14_L (SOP, 14-Leads, Body 5x4.4mm, Pitch 0.65mm, IPC High Density)
footprint TI-PW14_M (SOP, 14-Leads, Body 5x4.4mm, Pitch 0.65mm, IPC Low Density)
pins on every part: 4 V+ (power), 11 V- (power)
part A pins: 1 ENABLE A (in), 5 IN A+ (in), 6 IN A- (in), 7 OUT A (out)
part B pins: 2 ENABLE B (in), 8 OUT B (out), 9 IN B- (in), 10 IN B+ (in)
part C pins: 3 ENABLE C (in), 12 IN C+ (in), 13 IN C- (in), 14 OUT C (out)

## OPA3355EA/250G4
designator U?
200 MHz GBW, CMOS Triple Operational Amplifier with Shutdown, 2.7 to 5.5 V, -40 to 125 degC, 14-pin SOP (PW14), Green (RoHS & no Sb/Br); Manufacturer: Texas Instruments; PartNumber: OPA3355EA/250G4; 2nd Harmonic(dBc): 81; 3rd Harmonic(dBc): 93; @ MHz: 1; BW @ Acl(MHz): 450; Diff Gain(%): 0.02; Diff Phase(deg): 0.05; Io(Typ)(mA): 100; Iq per channel(Max)(mA): 14; Number of Channels: 3; Settling Time (0.1%)(Typ)(ns): 30; Slew Rate(Typ)(V/us): 360; Sub Family: High Output Current Amplifier (>=50mA), High Speed Amplifier (>=50MHz), Low Supply Voltage Amplifier (<=2.7V); THD (Fc is 1 MHz)(Typ)(dB): -79; Vio(Max)(mV): 2; Vn at Flatband(Typ)(nV/rtHz): 5.8; Vs(Max)(V): 5.5; Vs(Min)(V): 2.7; DatasheetVersion: SBOS195D; PackageVersion: 4040064-3/G, 02/2011; PackageReference: PW14; PackageDescription: 14-Pin Plastic Small Outline, Body 5 x 4.4 mm, Pitch 0.65 mm; Supplier 1: Digi-Key; Supplier Part Number 1: OPA3355EA/250G4-ND; Supplier 2: Mouser; Supplier Part Number 2: 595-OPA3355EA/250G4; Acl, min stable gain(V/V): 1; Eco-Plan: Green (RoHS & no Sb/Br); Iib(Max)(nA): 0.05; Mounting Technology: Surface Mount; Code_JEDEC: MO-153; ComponentLink1Description: Manufacturer URL; ComponentLink1URL: http://www.ti.com/; ComponentLink2Description: Datasheet; ComponentLink2URL: http://www.ti.com/general/docs/lit/getliterature.tsp?genericPartNumber=OPA3355&fileType=pdf; ComponentLink3Description: Package Specification; ComponentLink3URL: http://www.ti.com/litv/pdf/mpds360
footprint TI-PW14_N (SOP, 14-Leads, Body 5x4.4mm, Pitch 0.65mm, IPC Medium Density)
footprint TI-PW14_L (SOP, 14-Leads, Body 5x4.4mm, Pitch 0.65mm, IPC High Density)
footprint TI-PW14_M (SOP, 14-Leads, Body 5x4.4mm, Pitch 0.65mm, IPC Low Density)
pins on every part: 4 V+ (power), 11 V- (power)
part A pins: 1 ENABLE A (in), 5 IN A+ (in), 6 IN A- (in), 7 OUT A (out)
part B pins: 2 ENABLE B (in), 8 OUT B (out), 9 IN B- (in), 10 IN B+ (in)
part C pins: 3 ENABLE C (in), 12 IN C+ (in), 13 IN C- (in), 14 OUT C (out)

## OPA3355UA
designator U?
200 MHz GBW, CMOS Triple Operational Amplifier with Shutdown, 2.7 to 5.5 V, -40 to 125 degC, 14-pin SOIC (D14), Green (RoHS & no Sb/Br); Manufacturer: Texas Instruments; PartNumber: OPA3355UA; 2nd Harmonic(dBc): 81; 3rd Harmonic(dBc): 93; @ MHz: 1; BW @ Acl(MHz): 450; Diff Gain(%): 0.02; Diff Phase(deg): 0.05; Io(Typ)(mA): 100; Iq per channel(Max)(mA): 14; Number of Channels: 3; Settling Time (0.1%)(Typ)(ns): 30; Slew Rate(Typ)(V/us): 360; Sub Family: High Output Current Amplifier (>=50mA), High Speed Amplifier (>=50MHz), Low Supply Voltage Amplifier (<=2.7V); THD (Fc is 1 MHz)(Typ)(dB): -79; Vio(Max)(mV): 2; Vn at Flatband(Typ)(nV/rtHz): 5.8; Vs(Max)(V): 5.5; Vs(Min)(V): 2.7; DatasheetVersion: SBOS195D; PackageVersion: 4040047-5/M, 06/2011; PackageReference: D14; PackageDescription: 14-Pin Plastic Small Outline, Body 8.65 x 3.9 mm, Pitch 1.27 mm; Supplier 1: Digi-Key; Supplier Part Number 1: OPA3355UA-ND; Supplier 2: Newark; Supplier Part Number 2: 75C4839; Supplier 3: Mouser; Supplier Part Number 3: 595-OPA3355UA; Acl, min stable gain(V/V): 1; Eco-Plan: Green (RoHS & no Sb/Br); Iib(Max)(nA): 0.05; Mounting Technology: Surface Mount; Code_JEDEC: MS-012; ComponentLink1Description: Manufacturer URL; ComponentLink1URL: http://www.ti.com/; ComponentLink2Description: Datasheet; ComponentLink2URL: http://www.ti.com/general/docs/lit/getliterature.tsp?genericPartNumber=OPA3355&fileType=pdf; ComponentLink3Description: Package Specification; ComponentLink3URL: http://www.ti.com/lit/ml/mpds177g/mpds177g.pdf
footprint TI-D14_N (SOIC, 14-Leads, Body 8.65x3.9mm, Pitch 1.27mm, IPC Medium Density)
footprint TI-D14_L (SOIC, 14-Leads, Body 8.65x3.9mm, Pitch 1.27mm, IPC High Density)
footprint TI-D14_M (SOIC, 14-Leads, Body 8.65x3.9mm, Pitch 1.27mm, IPC Low Density)
pins on every part: 4 V+ (power), 11 V- (power)
part A pins: 1 ENABLE A (in), 5 IN A+ (in), 6 IN A- (in), 7 OUT A (out)
part B pins: 2 ENABLE B (in), 8 OUT B (out), 9 IN B- (in), 10 IN B+ (in)
part C pins: 3 ENABLE C (in), 12 IN C+ (in), 13 IN C- (in), 14 OUT C (out)

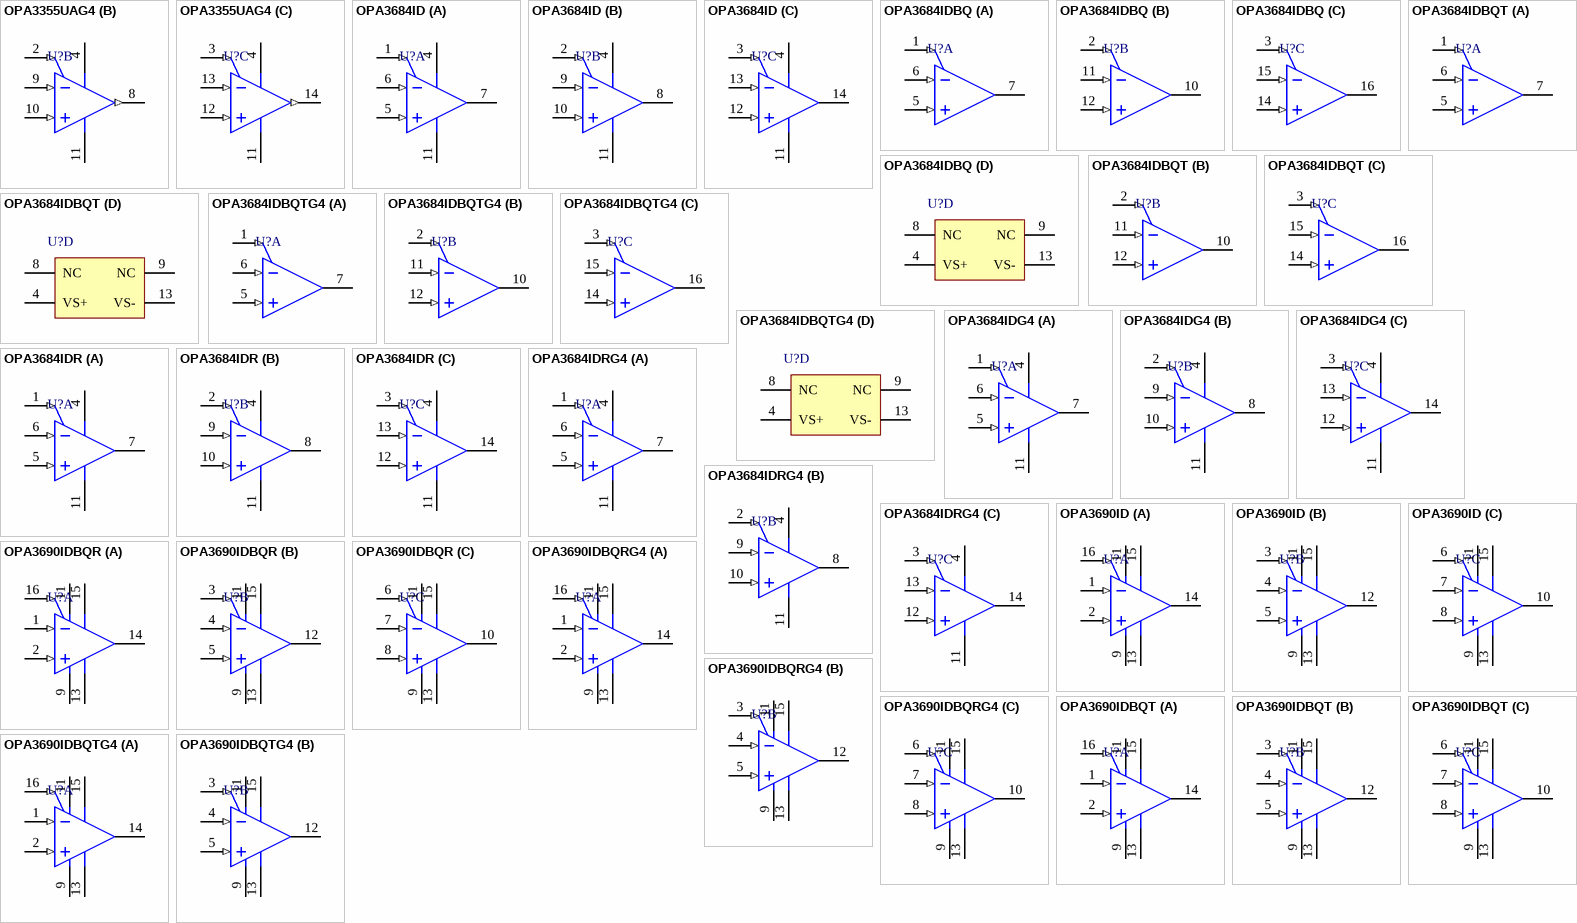
[diagram p16: symbols OPA3355UAG4 to OPA3690IDBQTG4]

## OPA3355UAG4
designator U?
200 MHz GBW, CMOS Triple Operational Amplifier with Shutdown, 2.7 to 5.5 V, -40 to 125 degC, 14-pin SOIC (D14), Green (RoHS & no Sb/Br); Manufacturer: Texas Instruments; PartNumber: OPA3355UAG4; 2nd Harmonic(dBc): 81; 3rd Harmonic(dBc): 93; @ MHz: 1; BW @ Acl(MHz): 450; Diff Gain(%): 0.02; Diff Phase(deg): 0.05; Io(Typ)(mA): 100; Iq per channel(Max)(mA): 14; Number of Channels: 3; Settling Time (0.1%)(Typ)(ns): 30; Slew Rate(Typ)(V/us): 360; Sub Family: High Output Current Amplifier (>=50mA), High Speed Amplifier (>=50MHz), Low Supply Voltage Amplifier (<=2.7V); THD (Fc is 1 MHz)(Typ)(dB): -79; Vio(Max)(mV): 9; Vn at Flatband(Typ)(nV/rtHz): 5.8; Vs(Max)(V): 5.5; Vs(Min)(V): 2.7; DatasheetVersion: SBOS195D; PackageVersion: 4040047-5/M, 06/2011; PackageReference: D14; PackageDescription: 14-Pin Plastic Small Outline, Body 8.65 x 3.9 mm, Pitch 1.27 mm; Supplier 1: Digi-Key; Supplier Part Number 1: OPA3355UAG4-ND; Supplier 2: Mouser; Supplier Part Number 2: 595-OPA3355UAG4; Acl, min stable gain(V/V): 1; Eco-Plan: Green (RoHS & no Sb/Br); Iib(Max)(nA): 0.05; Mounting Technology: Surface Mount; Code_JEDEC: MS-012; ComponentLink1Description: Manufacturer URL; ComponentLink1URL: http://www.ti.com/; ComponentLink2Description: Datasheet; ComponentLink2URL: http://www.ti.com/general/docs/lit/getliterature.tsp?genericPartNumber=OPA3355&fileType=pdf; ComponentLink3Description: Package Specification; ComponentLink3URL: http://www.ti.com/lit/ml/mpds177g/mpds177g.pdf
footprint TI-D14_N (SOIC, 14-Leads, Body 8.65x3.9mm, Pitch 1.27mm, IPC Medium Density)
footprint TI-D14_L (SOIC, 14-Leads, Body 8.65x3.9mm, Pitch 1.27mm, IPC High Density)
footprint TI-D14_M (SOIC, 14-Leads, Body 8.65x3.9mm, Pitch 1.27mm, IPC Low Density)
pins on every part: 4 V+ (power), 11 V- (power)
part A pins: 1 ENABLE A (in), 5 IN A+ (in), 6 IN A- (in), 7 OUT A (out)
part B pins: 2 ENABLE B (in), 8 OUT B (out), 9 IN B- (in), 10 IN B+ (in)
part C pins: 3 ENABLE C (in), 12 IN C+ (in), 13 IN C- (in), 14 OUT C (out)

## OPA3684ID
designator U?
Low-Power, Triple Current Feedback Operational Amplifier with Disable, 5 to 12 V, -40 to 85 degC, 14-pin SOIC (D14), Green (RoHS & no Sb/Br); Manufacturer: Texas Instruments; PartNumber: OPA3684ID; 2nd Harmonic(dBc): 82; 3rd Harmonic(dBc): 84; @ MHz: 5; Acl, min stable gain(V/V): 1; BW @ Acl(MHz): 170; Diff Gain(%): 0.04; Diff Phase(deg): 0.02; Iib(Max)(nA): 19500; Io(Typ)(mA): 120; Iq per channel(Max)(mA): 3.9; Number of Channels: 3; Settling Time (0.1%)(Typ)(ns): 11; Slew Rate(Typ)(V/us): 750; Sub Family: High Output Current Amplifier (>=50mA), High Speed Amplifier (>=50MHz); THD (Fc is 1 MHz)(Typ)(dB): -79; Vio(Max)(mV): 3.5; Vn at Flatband(Typ)(nV/rtHz): 3.7; Vs(Max)(V): 12; DatasheetVersion: SBOS241C; PackageVersion: 4040047-5/M, 06/2011; PackageReference: D14; PackageDescription: 14-Pin Plastic Small Outline, Body 8.65 x 3.9 mm, Pitch 1.27 mm; Supplier 1: Digi-Key; Supplier Part Number 1: 296-13646-5-ND; Supplier 2: Newark; Supplier Part Number 2: 02E6718; Supplier 3: Mouser; Supplier Part Number 3: 595-OPA3684ID; Eco-Plan: Green (RoHS & no Sb/Br); Vs(Min)(V): 5; Mounting Technology: Surface Mount; Code_JEDEC: MS-012; ComponentLink1Description: Manufacturer URL; ComponentLink1URL: http://www.ti.com/; ComponentLink2Description: Datasheet; ComponentLink2URL: http://www.ti.com/general/docs/lit/getliterature.tsp?genericPartNumber=OPA3684&fileType=pdf; ComponentLink3Description: Package Specification; ComponentLink3URL: http://www.ti.com/lit/ml/mpds177g/mpds177g.pdf
footprint TI-D14_N (SOIC, 14-Leads, Body 8.65x3.9mm, Pitch 1.27mm, IPC Medium Density)
footprint TI-D14_L (SOIC, 14-Leads, Body 8.65x3.9mm, Pitch 1.27mm, IPC High Density)
footprint TI-D14_M (SOIC, 14-Leads, Body 8.65x3.9mm, Pitch 1.27mm, IPC Low Density)
pins on every part: 4 VS+ (power), 11 VS- (power)
part A pins: 1 ~{DIS A} (in), 5 IN A+ (in), 6 IN A- (in), 7 OUT A (hiz)
part B pins: 2 ~{DIS B} (in), 8 OUT B (hiz), 9 IN B- (in), 10 IN B+ (in)
part C pins: 3 ~{DIS C} (in), 12 IN C+ (in), 13 IN C- (in), 14 OUT C (hiz)

## OPA3684IDBQ
designator U?
Low-Power, Triple Current Feedback Operational Amplifier with Disable, 5 to 12 V, -40 to 85 degC, 16-pin SOP (DBQ16); Manufacturer: Texas Instruments; PartNumber: OPA3684IDBQ; 2nd Harmonic(dBc): 82; 3rd Harmonic(dBc): 84; @ MHz: 5; Acl, min stable gain(V/V): 1; BW @ Acl(MHz): 170; Diff Gain(%): 0.04; Diff Phase(deg): 0.02; Iib(Max)(nA): 19500; Io(Typ)(mA): 120; Iq per channel(Max)(mA): 3.9; Number of Channels: 3; Settling Time (0.1%)(Typ)(ns): 11; Slew Rate(Typ)(V/us): 750; Sub Family: High Output Current Amplifier (>=50mA), High Speed Amplifier (>=50MHz); THD (Fc is 1 MHz)(Typ)(dB): -79; Vio(Max)(mV): 3.5; Vn at Flatband(Typ)(nV/rtHz): 3.7; Vs(Max)(V): 12; DatasheetVersion: SBOS241C; PackageVersion: 4073301-2/H, 10/2008; PackageReference: DBQ16; PackageDescription: 16-Pin, Plastic Small Outline, Body 3.9 x 4.9 mm, Pitch 0.635 mm; Supplier 1: Mouser; Supplier Part Number 1: N/A; Vs(Min)(V): 5; Mounting Technology: Surface Mount; Code_JEDEC: MO-137; ComponentLink1Description: Manufacturer URL; ComponentLink1URL: http://www.ti.com/; ComponentLink2Description: Datasheet; ComponentLink2URL: http://www.ti.com/general/docs/lit/getliterature.tsp?genericPartNumber=OPA3684&fileType=pdf; ComponentLink3Description: Package Specification; ComponentLink3URL: http://www.ti.com/litv/pdf/msoi004g
footprint TI-DBQ16_N (SOP, 16-Leads, Body 4.9x3.9mm, Pitch 0.635mm, IPC Medium Density)
footprint TI-DBQ16_L (SOP, 16-Leads, Body 4.9x3.9mm, Pitch 0.635mm, IPC High Density)
footprint TI-DBQ16_M (SOP, 16-Leads, Body 4.9x3.9mm, Pitch 0.635mm, IPC Low Density)
part A pins: 1 ~{DIS A} (in), 5 IN A+ (in), 6 IN A- (in), 7 OUT A (hiz)
part B pins: 2 ~{DIS B} (in), 10 OUT B (hiz), 11 IN B- (in), 12 IN B+ (in)
part C pins: 3 ~{DIS C} (in), 14 IN C+ (in), 15 IN C- (in), 16 OUT C (hiz)
part D pins: 4 VS+ (power), 8 NC, 9 NC, 13 VS- (power)

## OPA3684IDBQT
designator U?
Low-Power, Triple Current Feedback Operational Amplifier with Disable, 5 to 12 V, -40 to 85 degC, 16-pin SOP (DBQ16), Green (RoHS & no Sb/Br); Manufacturer: Texas Instruments; PartNumber: OPA3684IDBQT; 2nd Harmonic(dBc): 82; 3rd Harmonic(dBc): 84; @ MHz: 5; Acl, min stable gain(V/V): 1; BW @ Acl(MHz): 170; Diff Gain(%): 0.04; Diff Phase(deg): 0.02; Iib(Max)(nA): 19500; Io(Typ)(mA): 120; Iq per channel(Max)(mA): 3.9; Number of Channels: 3; Settling Time (0.1%)(Typ)(ns): 11; Slew Rate(Typ)(V/us): 750; Sub Family: High Output Current Amplifier (>=50mA), High Speed Amplifier (>=50MHz); THD (Fc is 1 MHz)(Typ)(dB): -79; Vio(Max)(mV): 3.5; Vn at Flatband(Typ)(nV/rtHz): 3.7; Vs(Max)(V): 12; DatasheetVersion: SBOS241C; PackageVersion: 4073301-2/H, 10/2008; PackageReference: DBQ16; PackageDescription: 16-Pin, Plastic Small Outline, Body 3.9 x 4.9 mm, Pitch 0.635 mm; Supplier 1: Digi-Key; Supplier Part Number 1: 296-13647-2-ND; Supplier 2: Digi-Key; Supplier Part Number 2: 296-13647-1-ND; Supplier 3: Digi-Key; Supplier Part Number 3: 296-13647-6-ND; Supplier 4: Mouser; Supplier Part Number 4: 595-OPA3684IDBQT; Eco-Plan: Green (RoHS & no Sb/Br); Vs(Min)(V): 5; Mounting Technology: Surface Mount; Code_JEDEC: MO-137; ComponentLink1Description: Manufacturer URL; ComponentLink1URL: http://www.ti.com/; ComponentLink2Description: Datasheet; ComponentLink2URL: http://www.ti.com/general/docs/lit/getliterature.tsp?genericPartNumber=OPA3684&fileType=pdf; ComponentLink3Description: Package Specification; ComponentLink3URL: http://www.ti.com/litv/pdf/msoi004g
footprint TI-DBQ16_N (SOP, 16-Leads, Body 4.9x3.9mm, Pitch 0.635mm, IPC Medium Density)
footprint TI-DBQ16_L (SOP, 16-Leads, Body 4.9x3.9mm, Pitch 0.635mm, IPC High Density)
footprint TI-DBQ16_M (SOP, 16-Leads, Body 4.9x3.9mm, Pitch 0.635mm, IPC Low Density)
part A pins: 1 ~{DIS A} (in), 5 IN A+ (in), 6 IN A- (in), 7 OUT A (hiz)
part B pins: 2 ~{DIS B} (in), 10 OUT B (hiz), 11 IN B- (in), 12 IN B+ (in)
part C pins: 3 ~{DIS C} (in), 14 IN C+ (in), 15 IN C- (in), 16 OUT C (hiz)
part D pins: 4 VS+ (power), 8 NC, 9 NC, 13 VS- (power)

## OPA3684IDBQTG4
designator U?
Low-Power, Triple Current Feedback Operational Amplifier with Disable, 5 to 12 V, -40 to 85 degC, 16-pin SOP (DBQ16), Green (RoHS & no Sb/Br); Manufacturer: Texas Instruments; PartNumber: OPA3684IDBQTG4; 2nd Harmonic(dBc): 82; 3rd Harmonic(dBc): 84; @ MHz: 5; Acl, min stable gain(V/V): 1; BW @ Acl(MHz): 170; Diff Gain(%): 0.04; Diff Phase(deg): 0.02; Iib(Max)(nA): 19500; Io(Typ)(mA): 120; Iq per channel(Max)(mA): 3.9; Number of Channels: 3; Settling Time (0.1%)(Typ)(ns): 11; Slew Rate(Typ)(V/us): 750; Sub Family: High Output Current Amplifier (>=50mA), High Speed Amplifier (>=50MHz); THD (Fc is 1 MHz)(Typ)(dB): -79; Vio(Max)(mV): 3.5; Vn at Flatband(Typ)(nV/rtHz): 3.7; Vs(Max)(V): 12; DatasheetVersion: SBOS241C; PackageVersion: 4073301-2/H, 10/2008; PackageReference: DBQ16; PackageDescription: 16-Pin, Plastic Small Outline, Body 3.9 x 4.9 mm, Pitch 0.635 mm; Supplier 1: Digi-Key; Supplier Part Number 1: OPA3684IDBQTG4-ND; Supplier 2: Mouser; Supplier Part Number 2: 595-OPA3684IDBQTG4; Eco-Plan: Green (RoHS & no Sb/Br); Vs(Min)(V): 5; Mounting Technology: Surface Mount; Code_JEDEC: MO-137; ComponentLink1Description: Manufacturer URL; ComponentLink1URL: http://www.ti.com/; ComponentLink2Description: Datasheet; ComponentLink2URL: http://www.ti.com/general/docs/lit/getliterature.tsp?genericPartNumber=OPA3684&fileType=pdf; ComponentLink3Description: Package Specification; ComponentLink3URL: http://www.ti.com/litv/pdf/msoi004g
footprint TI-DBQ16_N (SOP, 16-Leads, Body 4.9x3.9mm, Pitch 0.635mm, IPC Medium Density)
footprint TI-DBQ16_L (SOP, 16-Leads, Body 4.9x3.9mm, Pitch 0.635mm, IPC High Density)
footprint TI-DBQ16_M (SOP, 16-Leads, Body 4.9x3.9mm, Pitch 0.635mm, IPC Low Density)
part A pins: 1 ~{DIS A} (in), 5 IN A+ (in), 6 IN A- (in), 7 OUT A (hiz)
part B pins: 2 ~{DIS B} (in), 10 OUT B (hiz), 11 IN B- (in), 12 IN B+ (in)
part C pins: 3 ~{DIS C} (in), 14 IN C+ (in), 15 IN C- (in), 16 OUT C (hiz)
part D pins: 4 VS+ (power), 8 NC, 9 NC, 13 VS- (power)

## OPA3684IDG4
designator U?
Low-Power, Triple Current Feedback Operational Amplifier with Disable, 5 to 12 V, -40 to 85 degC, 14-pin SOIC (D14), Green (RoHS & no Sb/Br); Manufacturer: Texas Instruments; PartNumber: OPA3684IDG4; 2nd Harmonic(dBc): 82; 3rd Harmonic(dBc): 84; @ MHz: 5; Acl, min stable gain(V/V): 1; BW @ Acl(MHz): 170; Diff Gain(%): 0.04; Diff Phase(deg): 0.02; Iib(Max)(nA): 19500; Io(Typ)(mA): 120; Iq per channel(Max)(mA): 3.9; Number of Channels: 3; Settling Time (0.1%)(Typ)(ns): 11; Slew Rate(Typ)(V/us): 750; Sub Family: High Output Current Amplifier (>=50mA), High Speed Amplifier (>=50MHz); THD (Fc is 1 MHz)(Typ)(dB): -79; Vio(Max)(mV): 3.5; Vn at Flatband(Typ)(nV/rtHz): 3.7; Vs(Max)(V): 12; DatasheetVersion: SBOS241C; PackageVersion: 4040047-5/M, 06/2011; PackageReference: D14; PackageDescription: 14-Pin Plastic Small Outline, Body 8.65 x 3.9 mm, Pitch 1.27 mm; Supplier 1: Digi-Key; Supplier Part Number 1: OPA3684IDG4-ND; Supplier 2: Mouser; Supplier Part Number 2: 595-OPA3684IDG4; Eco-Plan: Green (RoHS & no Sb/Br); Vs(Min)(V): 5; Mounting Technology: Surface Mount; Code_JEDEC: MS-012; ComponentLink1Description: Manufacturer URL; ComponentLink1URL: http://www.ti.com/; ComponentLink2Description: Datasheet; ComponentLink2URL: http://www.ti.com/general/docs/lit/getliterature.tsp?genericPartNumber=OPA3684&fileType=pdf; ComponentLink3Description: Package Specification; ComponentLink3URL: http://www.ti.com/lit/ml/mpds177g/mpds177g.pdf
footprint TI-D14_N (SOIC, 14-Leads, Body 8.65x3.9mm, Pitch 1.27mm, IPC Medium Density)
footprint TI-D14_L (SOIC, 14-Leads, Body 8.65x3.9mm, Pitch 1.27mm, IPC High Density)
footprint TI-D14_M (SOIC, 14-Leads, Body 8.65x3.9mm, Pitch 1.27mm, IPC Low Density)
pins on every part: 4 VS+ (power), 11 VS- (power)
part A pins: 1 ~{DIS A} (in), 5 IN A+ (in), 6 IN A- (in), 7 OUT A (hiz)
part B pins: 2 ~{DIS B} (in), 8 OUT B (hiz), 9 IN B- (in), 10 IN B+ (in)
part C pins: 3 ~{DIS C} (in), 12 IN C+ (in), 13 IN C- (in), 14 OUT C (hiz)

## OPA3684IDR
designator U?
Low-Power, Triple Current Feedback Operational Amplifier with Disable, 5 to 12 V, -40 to 85 degC, 14-pin SOIC (D14), Green (RoHS & no Sb/Br); Manufacturer: Texas Instruments; PartNumber: OPA3684IDR; 2nd Harmonic(dBc): 82; 3rd Harmonic(dBc): 84; @ MHz: 5; Acl, min stable gain(V/V): 1; BW @ Acl(MHz): 170; Diff Gain(%): 0.04; Diff Phase(deg): 0.02; Iib(Max)(nA): 19500; Io(Typ)(mA): 120; Iq per channel(Max)(mA): 3.9; Number of Channels: 3; Settling Time (0.1%)(Typ)(ns): 11; Slew Rate(Typ)(V/us): 750; Sub Family: High Output Current Amplifier (>=50mA), High Speed Amplifier (>=50MHz); THD (Fc is 1 MHz)(Typ)(dB): -79; Vio(Max)(mV): 3.5; Vn at Flatband(Typ)(nV/rtHz): 3.7; Vs(Max)(V): 12; DatasheetVersion: SBOS241C; PackageVersion: 4040047-5/M, 06/2011; PackageReference: D14; PackageDescription: 14-Pin Plastic Small Outline, Body 8.65 x 3.9 mm, Pitch 1.27 mm; Supplier 1: Digi-Key; Supplier Part Number 1: OPA3684IDR-ND; Supplier 2: Mouser; Supplier Part Number 2: 595-OPA3684IDR; Eco-Plan: Green (RoHS & no Sb/Br); Vs(Min)(V): 5; Mounting Technology: Surface Mount; Code_JEDEC: MS-012; ComponentLink1Description: Manufacturer URL; ComponentLink1URL: http://www.ti.com/; ComponentLink2Description: Datasheet; ComponentLink2URL: http://www.ti.com/general/docs/lit/getliterature.tsp?genericPartNumber=OPA3684&fileType=pdf; ComponentLink3Description: Package Specification; ComponentLink3URL: http://www.ti.com/lit/ml/mpds177g/mpds177g.pdf
footprint TI-D14_N (SOIC, 14-Leads, Body 8.65x3.9mm, Pitch 1.27mm, IPC Medium Density)
footprint TI-D14_L (SOIC, 14-Leads, Body 8.65x3.9mm, Pitch 1.27mm, IPC High Density)
footprint TI-D14_M (SOIC, 14-Leads, Body 8.65x3.9mm, Pitch 1.27mm, IPC Low Density)
pins on every part: 4 VS+ (power), 11 VS- (power)
part A pins: 1 ~{DIS A} (in), 5 IN A+ (in), 6 IN A- (in), 7 OUT A (hiz)
part B pins: 2 ~{DIS B} (in), 8 OUT B (hiz), 9 IN B- (in), 10 IN B+ (in)
part C pins: 3 ~{DIS C} (in), 12 IN C+ (in), 13 IN C- (in), 14 OUT C (hiz)

## OPA3684IDRG4
designator U?
Low-Power, Triple Current Feedback Operational Amplifier with Disable, 5 to 12 V, -40 to 85 degC, 14-pin SOIC (D14), Green (RoHS & no Sb/Br); Manufacturer: Texas Instruments; PartNumber: OPA3684IDRG4; 2nd Harmonic(dBc): 82; 3rd Harmonic(dBc): 84; @ MHz: 5; Acl, min stable gain(V/V): 1; BW @ Acl(MHz): 170; Diff Gain(%): 0.04; Diff Phase(deg): 0.02; Iib(Max)(nA): 19500; Io(Typ)(mA): 120; Iq per channel(Max)(mA): 3.9; Number of Channels: 3; Settling Time (0.1%)(Typ)(ns): 11; Slew Rate(Typ)(V/us): 750; Sub Family: High Output Current Amplifier (>=50mA), High Speed Amplifier (>=50MHz); THD (Fc is 1 MHz)(Typ)(dB): -79; Vio(Max)(mV): 3.5; Vn at Flatband(Typ)(nV/rtHz): 3.7; Vs(Max)(V): 12; DatasheetVersion: SBOS241C; PackageVersion: 4040047-5/M, 06/2011; PackageReference: D14; PackageDescription: 14-Pin Plastic Small Outline, Body 8.65 x 3.9 mm, Pitch 1.27 mm; Supplier 1: Digi-Key; Supplier Part Number 1: OPA3684IDRG4-ND; Supplier 2: Mouser; Supplier Part Number 2: 595-OPA3684IDRG4; Eco-Plan: Green (RoHS & no Sb/Br); Vs(Min)(V): 5; Mounting Technology: Surface Mount; Code_JEDEC: MS-012; ComponentLink1Description: Manufacturer URL; ComponentLink1URL: http://www.ti.com/; ComponentLink2Description: Datasheet; ComponentLink2URL: http://www.ti.com/general/docs/lit/getliterature.tsp?genericPartNumber=OPA3684&fileType=pdf; ComponentLink3Description: Package Specification; ComponentLink3URL: http://www.ti.com/lit/ml/mpds177g/mpds177g.pdf
footprint TI-D14_N (SOIC, 14-Leads, Body 8.65x3.9mm, Pitch 1.27mm, IPC Medium Density)
footprint TI-D14_L (SOIC, 14-Leads, Body 8.65x3.9mm, Pitch 1.27mm, IPC High Density)
footprint TI-D14_M (SOIC, 14-Leads, Body 8.65x3.9mm, Pitch 1.27mm, IPC Low Density)
pins on every part: 4 VS+ (power), 11 VS- (power)
part A pins: 1 ~{DIS A} (in), 5 IN A+ (in), 6 IN A- (in), 7 OUT A (hiz)
part B pins: 2 ~{DIS B} (in), 8 OUT B (hiz), 9 IN B- (in), 10 IN B+ (in)
part C pins: 3 ~{DIS C} (in), 12 IN C+ (in), 13 IN C- (in), 14 OUT C (hiz)

## OPA3690ID
designator U?
Triple, Wideband, Voltage-Feedback Operational Amplifier with Disable, 5 to 12 V, -40 to 85 degC, 16-pin SOIC (D16), Green (RoHS & no Sb/Br); Manufacturer: Texas Instruments; PartNumber: OPA3690ID; 2nd Harmonic(dBc): 77; 3rd Harmonic(dBc): 81; @ MHz: 5; Acl, min stable gain(V/V): 1; BW @ Acl(MHz): 500; Diff Gain(%): 0.06; Diff Phase(deg): 0.01; Iib(Max)(nA): 12000; Io(Typ)(mA): 190; Iq per channel(Max)(mA): 6.3; Number of Channels: 3; Settling Time (0.1%)(Typ)(ns): 8; Slew Rate(Typ)(V/us): 1800; Sub Family: High Output Current Amplifier (>=50mA), High Speed Amplifier (>=50MHz); THD (Fc is 1 MHz)(Typ)(dB): -80; Vio(Max)(mV): 4.5; Vn at Flatband(Typ)(nV/rtHz): 5.5; Vs(Max)(V): 12; DatasheetVersion: SBOS237G; PackageVersion: 4040047-6/M, 06/2011; PackageReference: D16; PackageDescription: 16-Pin Plastic Small Outline, Body 9.9 x 3.9 mm, Pitch 1.27 mm; Supplier 1: Digi-Key; Supplier Part Number 1: OPA3690ID-ND; Supplier 2: Farnell; Supplier Part Number 2: 8433615; Supplier 3: Newark; Supplier Part Number 3: 75C4927; Supplier 4: Mouser; Supplier Part Number 4: 595-OPA3690ID; Eco-Plan: Green (RoHS & no Sb/Br); Vs(Min)(V): 5; Mounting Technology: Surface Mount; Code_JEDEC: MS-012; ComponentLink1Description: Manufacturer URL; ComponentLink1URL: http://www.ti.com/; ComponentLink2Description: Datasheet; ComponentLink2URL: http://www.ti.com/general/docs/lit/getliterature.tsp?genericPartNumber=OPA3690&fileType=pdf; ComponentLink3Description: Package Specification; ComponentLink3URL: http://www.ti.com/litv/pdf/mpds178g
footprint TI-D16_N (SOIC, 16-Leads, Body 9.9x3.9mm, Pitch 1.27mm, IPC Medium Density)
footprint TI-D16_L (SOIC, 16-Leads, Body 9.9x3.9mm, Pitch 1.27mm, IPC High Density)
footprint TI-D16_M (SOIC, 16-Leads, Body 9.9x3.9mm, Pitch 1.27mm, IPC Low Density)
pins on every part: 9 VS- (power), 11 VS+ (power), 13 VS- (power), 15 VS+ (power)
part A pins: 1 IN A- (in), 2 IN A+ (in), 14 OUT A (hiz), 16 ~{DIS A} (in)
part B pins: 3 ~{DIS B} (in), 4 IN B- (in), 5 IN B+ (in), 12 OUT B (hiz)
part C pins: 6 ~{DIS C} (in), 7 IN C- (in), 8 IN C+ (in), 10 OUT C (hiz)